# Altium schematic symbol library BuoyLoRaNode.SchLib: 18 symbols
Pins are listed as number, name and electrical type; pins without a type are passive.

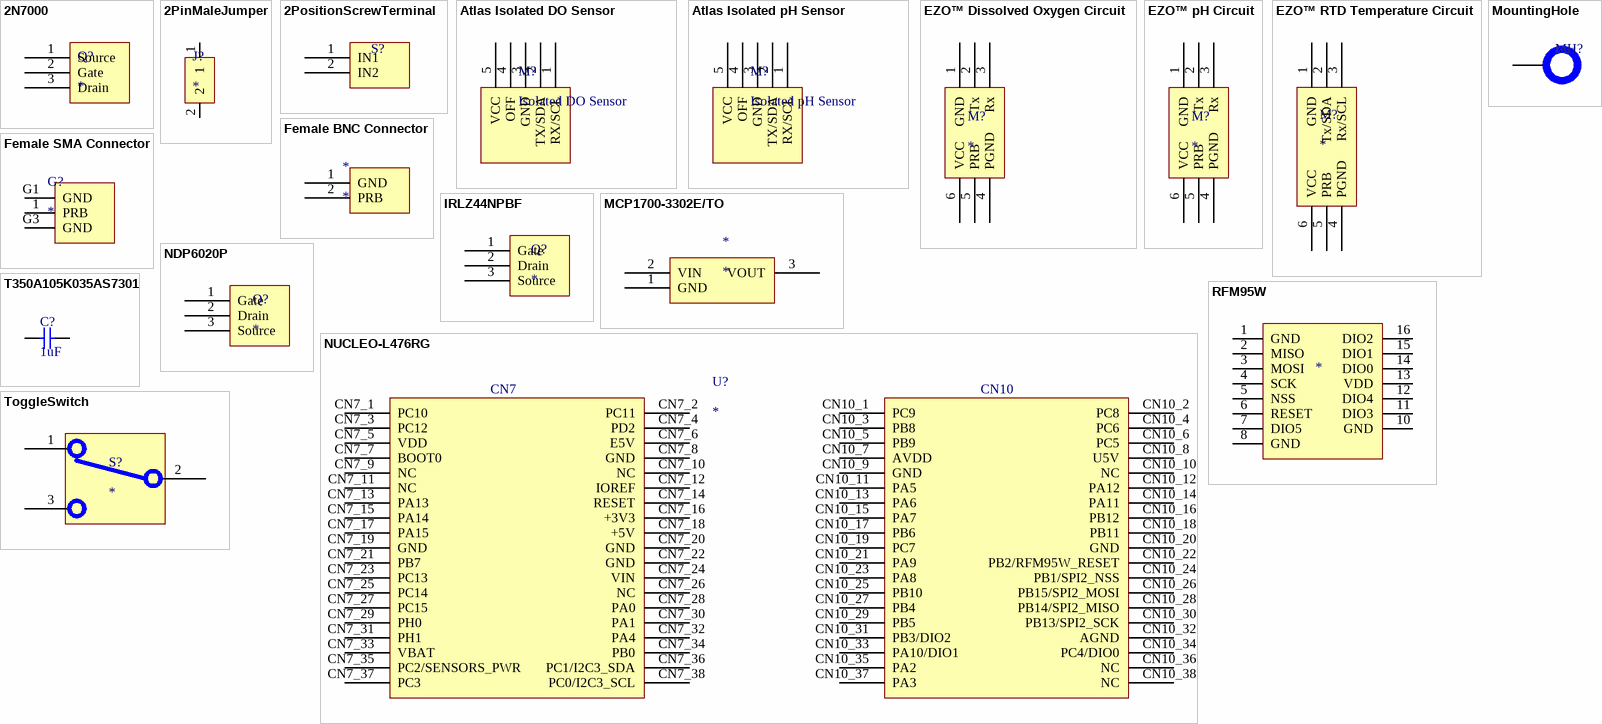
[diagram p0: symbols 2N7000 to ToggleSwitch]

## 2N7000
designator Q?
Fairchild Semiconductor 2N7000 N Channel MOSFET; Manufacturer: ON Semiconductor / Fairchild; Continuous Drain Current (ID): 200mA; Gate to Source Voltage (Vgs): 20V; Drain to Source Resistance: 1.2R; Drain to Source Voltage (Vdss): 60V; Max Power Dissipation: 400mW; Input Capacitance: 50pF; Element Configuration: Single; Rds On Max: 5R; Turn-Off Delay Time: 10ns; Number of Elements: 1; Threshold Voltage: 2.1V; Supplier 1: RSComponents; Manufacturer Part Number: 2N7000; RoHS: Yes; Category: MOSFETs; Stock 1: 1; Pricing 1: 20=0.32200, 40=0.24800, 100=0.22000, 200=0.19000, 400=0.18600 (USD); Mount: Through Hole; Case/Package: TO-92; Number of Pins: 3; Contact Plating: Copper,Tin,Silver; Weight: 0.201g; Min Operating Temperature: -55°C; Max Operating Temperature: 150°C; Packaging: Bulk; Power Dissipation: 400mW; Package Quantity: 2000; Drain to Source Breakdown Voltage: 60V; Voltage Rating (DC): 60V; Current Rating: 200mA; On-State Resistance: 5R; Nominal Vgs: 2.1V; Number of Channels: 1; Length: 5.2mm; Width: 4.19mm; Height: 5.33mm; Radiation Hardening: No; Lead Free: Lead Free; REACH SVHC: No SVHC; ComponentLink1URL: https://datasheet.ciiva.com/20171/47-0180-20171663.pdf?src-supplier=Rapid+Electronics; ComponentLink1Description: https://datasheet.ciiva.com/20171/47-0180-20171663.pdf?src-supplier=Rapid+Electronics; ComponentLink2URL: https://datasheet.ciiva.com/19457/783594-19457486.pdf?src-supplier=Jameco; ComponentLink2Description: https://datasheet.ciiva.com/19457/783594-19457486.pdf?src-supplier=Jameco; ComponentLink3URL: https://datasheet.ciiva.com/14092/2n7000-eng-tds-14092044.pdf?src-supplier=Distrelec; ComponentLink3Description: https://datasheet.ciiva.com/14092/2n7000-eng-tds-14092044.pdf?src-supplier=Distrelec; ComponentLink4URL: https://datasheet.ciiva.com/26252/nds7002a-26252924.pdf?src-supplier=Avnet+Europe; ComponentLink4Description: https://datasheet.ciiva.com/26252/nds7002a-26252924.pdf?src-supplier=Avnet+Europe; ComponentLink5URL: https://datasheet.ciiva.com/6367/2n7000-6367901.pdf?src-supplier=Digi-Key; ComponentLink5Description: https://datasheet.ciiva.com/6367/2n7000-6367901.pdf?src-supplier=Digi-Key; ComponentLink6URL: https://datasheet.ciiva.com/1254/660093-1254446.pdf?src-supplier=Newark; ComponentLink6Description: https://datasheet.ciiva.com/1254/660093-1254446.pdf?src-supplier=Newark; ComponentLink7URL: https://datasheet.ciiva.com/1188/660093-1188356.pdf?src-supplier=Element14; ComponentLink7Description: https://datasheet.ciiva.com/1188/660093-1188356.pdf?src-supplier=Element14; Supplier Part Number 1: 6714733
footprint 2N7000
pins: 1 Source, 2 Gate, 3 Drain

## 2PinMaleJumper
designator J?
footprint 2MaleJumper
pins: 1, 2

## 2PositionScrewTerminal
designator S?  (value not drawn)
PHOENIX CONTACT - 1725656 - Wire-To-Board Terminal Block, 2.54 mm, 2 Ways, 26 AWG, 20 AWG, 0.5 mm², Screw; Voltage Rating: 125V; Number of Contacts: 2; Max Current Rating: 6A; Number of Levels: 1; Max Supply Voltage: 63V; Connector Type: Screw,PCB,Terminal Block; Wire Gauge (Max): 26AWG; Wire Gauge (Min): 20AWG; Pitch: 2.54mm; Stripping Length: 4.5mm; Approvals: UL,CSA,cULus,EAC; Supplier 1: Digi-Key; Manufacturer: Phoenix Contact; Manufacturer Part Number: 1725656; RoHS: Yes; Category: Terminal Blocks; Stock 1: 9014; Pricing 1: 1=1.73000, 10=1.65600, 50=1.58400, 100=1.54080, 250=1.44000, 500=1.32480, 1000=1.22400, 2500=1.16640, 5000=1.10880 (USD); Mount: Through Hole; Number of Pins: 2; Color: Green; Weight: 0.022575oz; Contact Material: Tin; Housing Color: Green; Housing Material: Polyamide; Insulation Material: Nylon; Termination: Solder; Package Quantity: 50; Packaging: Bulk; Voltage: 125V; Series: MPT; Number of Rows: 1; Current Rating: 6A; Number of Positions Per Level: 2; Current: 6A; Number of Positions: 2; Orientation: Straight; Number of Poles: 2; Number of Circuits: 2; Length: 5.54mm; Width: 12mm; Height: 6.2mm; Depth: 6.2mm; Wire/Cable Gauge: 26AWG; Radiation Hardening: No; Lead Free: Lead Free; Flammability Rating: UL94 V-0; RoHS Compliant: Yes; REACH SVHC: No SVHC; ComponentLink1URL: https://datasheet.ciiva.com/823/1725656-823793.pdf?src-supplier=Digi-Key; ComponentLink1Description: https://datasheet.ciiva.com/823/1725656-823793.pdf?src-supplier=Digi-Key; ComponentLink2URL: https://datasheet.ciiva.com/1120/319957-1120510.pdf?src-supplier=Farnell; ComponentLink2Description: https://datasheet.ciiva.com/1120/319957-1120510.pdf?src-supplier=Farnell; ComponentLink3URL: https://datasheet.ciiva.com/16071/1725656-16071846.pdf?src-supplier=Onlinecomponents.com; ComponentLink3Description: https://datasheet.ciiva.com/16071/1725656-16071846.pdf?src-supplier=Onlinecomponents.com; ComponentLink4URL: https://datasheet.ciiva.com/15169/getdatasheetpartid-199323-15169849.pdf?src-supplier=Verical; ComponentLink4Description: https://datasheet.ciiva.com/15169/getdatasheetpartid-199323-15169849.pdf?src-supplier=Verical; ComponentLink5URL: https://datasheet.ciiva.com/26340/788052-da-01-en-100ntklemme-1725656-250-st-26340907.pdf?src-supplier=Conrad; ComponentLink5Description: https://datasheet.ciiva.com/26340/788052-da-01-en-100ntklemme-1725656-250-st-26340907.pdf?src-supplier=Conrad; Supplier Part Number 1: 277-1273-ND
footprint 2POSITIONSCREWTERMINAL
pins: 1 IN1, 2 IN2

## Atlas Isolated DO Sensor
designator M?, comment Isolated DO Sensor
footprint ATLASISOLATEDDOSENSOR
pins: 1 RX/SCL, 2 TX/SDA, 3 GND, 4 OFF, 5 VCC

## Atlas Isolated pH Sensor
designator M?, comment Isolated pH Sensor
footprint ATLASISOLATEDPHSENSOR
pins: 1 RX/SCL, 2 TX/SDA, 3 GND, 4 OFF, 5 VCC

## EZO™ Dissolved Oxygen Circuit
designator M?
Supplier 1: Digi-Key; Supplier Part Number 1: 952-1784-ND
footprint AtlasDOSensor
pins: 1 GND, 2 Tx, 3 Rx, 4 PGND, 5 PRB, 6 VCC

## EZO™ pH Circuit
designator M?
footprint AtlasPHSensor
pins: 1 GND, 2 Tx, 3 Rx, 4 PGND, 5 PRB, 6 VCC

## EZO™ RTD Temperature Circuit
designator M?
footprint AtlasTemperatureSensor
pins: 1 GND, 2 Tx/SDA, 3 Rx/SCL, 4 PGND, 5 PRB, 6 VCC

## Female BNC Connector
designator *
Conn BNC RCP Solder RA Thru-Hole Gold; Manufacturer: TE Connectivity; Manufacturer Part Number: 228686-1; Manufacturer Series: 228686; Body Material: PBT,Polybutylene; Body Plating: Nickel; Dielectric Material: Polymethylpentene; Number of Terminals/Pins: 20; Shape: Rectangular; Voltage Rating: 500V; Impedance: 50R; Polarity: Standard; Insulation Resistance: 5GR; Connector Type: BNC,Jack; Max Frequency: 4GHz; Gender: Male; PCB Mounting Orientation: Right Angle; Forward Current: 25mA; Coupling Type: Bayonet; Supplier 1: Digi-Key; RoHS: Yes; Category: RF / Coaxial Connectors; Stock 1: 413; Pricing 1: 1=11.59000, 10=10.26900, 25=9.87360, 50=9.47880, 100=8.95210, 250=8.16224, 500=7.63562, 1000=7.37233 (USD); Mount: Panel; Number of Pins: 20; Contact Plating: Gold; Contact Material: Bronze; Insulation Material: Polymethylpentene; Housing Color: White; Color: Yellow; Min Operating Temperature: -55°C; Max Operating Temperature: 85°C; Termination: Solder; Packaging: Bulk; Package Quantity: 35; Orientation: Right Angle; Series: BNC, Twin; Fastening Type: Bayonet; Operating Frequency: N/A; Contact Gender: Female; Length: 36.83mm; Depth: 14.76mm; Radiation Hardening: No; Lead Free: Contains Lead; ELV: Compliant; ComponentLink1URL: https://datasheet.ciiva.com/643/eng-cd-228686-f-643032.pdf?src-supplier=Digi-Key; ComponentLink1Description: https://datasheet.ciiva.com/643/eng-cd-228686-f-643032.pdf?src-supplier=Digi-Key; ComponentLink2URL: https://datasheet.ciiva.com/27747/921344-27747594.pdf?src-supplier=Jameco; ComponentLink2Description: https://datasheet.ciiva.com/27747/921344-27747594.pdf?src-supplier=Jameco; ComponentLink3URL: https://datasheet.ciiva.com/30091/eng-cat-82074-0598-144-30091995.pdf?src-supplier=Onlinecomponents.com; ComponentLink3Description: https://datasheet.ciiva.com/30091/eng-cat-82074-0598-144-30091995.pdf?src-supplier=Onlinecomponents.com; Supplier Part Number 1: A24708-ND
footprint BNCFemaleConnector
pins: 1 GND, 2 PRB

## Female SMA Connector
designator G?
footprint SmaFemaleConnectorEdgeMount
pins: 1 PRB, G1 GND, G3 GND

## IRLZ44NPBF
designator Q?
INFINEON - IRLZ44NPBF - MOSFET, N, 55V, 41A, TO-220; Manufacturer: International Rectifier; Continuous Drain Current (ID): 47A; Gate to Source Voltage (Vgs): 16V; Rise Time: 84ns; Number of Elements: 1; Drain to Source Resistance: 35mR; Power Dissipation: 110W; Turn-On Delay Time: 11ns; Turn-Off Delay Time: 26ns; Fall Time: 15ns; Drain-source On Resistance-Max: 22mR; Input Capacitance: 1.7nF; Nominal Vgs: 2V; Recovery Time: 120ns; Element Configuration: Single; Supplier 1: Newark; Manufacturer Part Number: IRLZ44NPBF; RoHS: Yes; Category: MOSFETs; Mount: Through Hole; Case/Package: TO-220AB; Number of Pins: 3; Min Operating Temperature: -55°C; Max Operating Temperature: 175°C; Drain to Source Voltage (Vdss): 55V; Max Power Dissipation: 110W; Package Quantity: 50; Packaging: Rail/Tube; Rds On Max: 22mR; Drain to Source Breakdown Voltage: 55V; On-State Resistance: 22mR; Series: HEXFET®; Dual Supply Voltage: 55V; Voltage Rating (DC): 55V; Current Rating: 47A; Length: 10.54mm; Width: 4.69mm; Height: 8.77mm; Lead Pitch: 2.54mm; Radiation Hardening: No; RoHS Compliant: Yes; Lead Free: Lead Free; REACH SVHC: No SVHC; ComponentLink1URL: https://datasheet.ciiva.com/19479/1563905-19479714.pdf?src-supplier=Jameco; ComponentLink1Description: https://datasheet.ciiva.com/19479/1563905-19479714.pdf?src-supplier=Jameco; ComponentLink2URL: https://datasheet.ciiva.com/7459/irlz44n-7459241.pdf?src-supplier=Newark; ComponentLink2Description: https://datasheet.ciiva.com/7459/irlz44n-7459241.pdf?src-supplier=Newark; ComponentLink3URL: https://datasheet.ciiva.com/16427/irlz44npbf-16427676.pdf?src-supplier=Future+Electronics; ComponentLink3Description: https://datasheet.ciiva.com/16427/irlz44npbf-16427676.pdf?src-supplier=Future+Electronics; ComponentLink4URL: https://datasheet.ciiva.com/7835/irlz44npbf-7835815.pdf?src-supplier=Element14; ComponentLink4Description: https://datasheet.ciiva.com/7835/irlz44npbf-7835815.pdf?src-supplier=Element14; ComponentLink5URL: https://datasheet.ciiva.com/939/irlz44npbf-939116.pdf?src-supplier=Digi-Key; ComponentLink5Description: https://datasheet.ciiva.com/939/irlz44npbf-939116.pdf?src-supplier=Digi-Key; Supplier Part Number 1: 38K3030
footprint IRLZ44N
pins: 1 Gate, 2 Drain, 3 Source

## MCP1700-3302E/TO
designator *
LDO Regulator Pos 3.3V 0.25A 3-Pin TO-92 Bag; Manufacturer: Microchip; Manufacturer Part Number: MCP1700-3302E/TO; Max Input Voltage: 6V; Min Input Voltage: 2.3V; Number of Outputs: 1; Output Type: Fixed; Output Current: 250mA; Input Bias Current: 1.6uA; Polarity: Positive; Quiescent Current: 4uA; Accuracy: 2%; Dropout Voltage: 178mV; Max Power Dissipation: 644mW; Supplier 1: RSComponents; RoHS: Yes; Category: Voltage Regulators - Linear; Stock 1: 1; Pricing 1: 10=0.41600, 30=0.39600, 100=0.36500 (USD); Mount: Through Hole; Case/Package: TO-92; Number of Pins: 3; Min Operating Temperature: -40°C; Max Operating Temperature: 125°C; Output Voltage: 3.3V; Nominal Output Voltage: 3.3V; Max Output Current: 250mA; Packaging: Bag; Package Quantity: 1000; Min Output Voltage: 3.3V; Output Voltage Accuracy: 2%; Power Dissipation: 644mW; Length: 0.205inch; Width: 0.165inch; Height: 0.21inch; Radiation Hardening: No; REACH SVHC: No SVHC; Lead Free: Lead Free; RoHS Compliant: Yes; ComponentLink1URL: https://datasheet.ciiva.com/15111/getdatasheetpartid-57068-15111255.pdf?src-supplier=Verical; ComponentLink1Description: https://datasheet.ciiva.com/15111/getdatasheetpartid-57068-15111255.pdf?src-supplier=Verical; ComponentLink2URL: https://datasheet.ciiva.com/2040/21826b-2040652.pdf?src-supplier=Digi-Key; ComponentLink2Description: https://datasheet.ciiva.com/2040/21826b-2040652.pdf?src-supplier=Digi-Key; ComponentLink3URL: https://datasheet.ciiva.com/7649/21826b-7649804.pdf?src-supplier=Element14; ComponentLink3Description: https://datasheet.ciiva.com/7649/21826b-7649804.pdf?src-supplier=Element14; ComponentLink4URL: https://datasheet.ciiva.com/8041/21826b-8041593.pdf?src-supplier=Element14; ComponentLink4Description: https://datasheet.ciiva.com/8041/21826b-8041593.pdf?src-supplier=Element14; ComponentLink5URL: https://datasheet.ciiva.com/17364/jp011779-17364271.pdf?src-supplier=Avnet+Europe; ComponentLink5Description: https://datasheet.ciiva.com/17364/jp011779-17364271.pdf?src-supplier=Avnet+Europe; ComponentLink6URL: https://datasheet.ciiva.com/16380/filehandler-aspxddocname-en011779-16380149.pdf?src-supplier=Future+Electronics; ComponentLink6Description: https://datasheet.ciiva.com/16380/filehandler-aspxddocname-en011779-16380149.pdf?src-supplier=Future+Electronics; ComponentLink7URL: https://datasheet.ciiva.com/14562/70045391-14562025.pdf?src-supplier=Allied+Electronics; ComponentLink7Description: https://datasheet.ciiva.com/14562/70045391-14562025.pdf?src-supplier=Allied+Electronics; Supplier Part Number 1: 0403888
footprint MCP1700
pins: 1 GND, 2 VIN, 3 VOUT

## MountingHole
designator MH?, comment MountingHole_3.4mmHole  (value not drawn)
footprint MountingHole
pins: 1

## NDP6020P
designator Q?
ON SEMICONDUCTOR - NDP6020P - MOSFET Transistor, P Channel, 24 A, -20 V, 0.041 ohm, -4.5 V, -700 mV; Manufacturer: ON Semiconductor / Fairchild; Continuous Drain Current (ID): 24A; Max Power Dissipation: 60W; Rise Time: 27ns; Rds On Max: 50mR; Input Capacitance: 1.59nF; Drain to Source Voltage (Vdss): 20V; Fall Time: 70ns; Drain to Source Resistance: 5mR; Turn-Off Delay Time: 120ns; Element Configuration: Single; Drain to Source Breakdown Voltage: -20V; Gate to Source Voltage (Vgs): 8V; Number of Elements: 1; Turn-On Delay Time: 15ns; Threshold Voltage: -700mV; Current Rating: -24A; Polarity: P-CHANNEL; Supplier 1: Newark; Manufacturer Part Number: NDP6020P; RoHS: Yes; Category: MOSFETs; Pricing 1: 1=1.72000, 10=1.46000, 100=1.14000, 500=0.96600, 1000=0.83600 (USD); Mount: Through Hole; Case/Package: TO-220AB; Number of Pins: 3; Weight: 1.8g; Min Operating Temperature: -55°C; Max Operating Temperature: 175°C; Packaging: Rail/Tube; Package Quantity: 50; Series: -; Power Dissipation: 60W; Voltage Rating (DC): -20V; On-State Resistance: 50mR; Drain-source On Resistance-Max: 50mR; Length: 10.67mm; Width: 4.7mm; Height: 16.3mm; Radiation Hardening: No; Lead Free: Lead Free; RoHS Compliant: Yes; REACH SVHC: No SVHC; ComponentLink1URL: https://datasheet.ciiva.com/15137/getdatasheetpartid-59735-15137233.pdf?src-supplier=Verical; ComponentLink1Description: https://datasheet.ciiva.com/15137/getdatasheetpartid-59735-15137233.pdf?src-supplier=Verical; ComponentLink2URL: https://datasheet.ciiva.com/11175/ndb6020p-11175173.pdf?src-supplier=Avnet; ComponentLink2Description: https://datasheet.ciiva.com/11175/ndb6020p-11175173.pdf?src-supplier=Avnet; ComponentLink3URL: https://datasheet.ciiva.com/6370/ndb6020p-6370087.pdf?src-supplier=Digi-Key; ComponentLink3Description: https://datasheet.ciiva.com/6370/ndb6020p-6370087.pdf?src-supplier=Digi-Key; ComponentLink4URL: https://datasheet.ciiva.com/26140/ndb6020p-26140174.pdf?src-supplier=Avnet+Europe; ComponentLink4Description: https://datasheet.ciiva.com/26140/ndb6020p-26140174.pdf?src-supplier=Avnet+Europe; ComponentLink5URL: https://datasheet.ciiva.com/17400/ndp6020p-17400318.pdf?src-supplier=Future+Electronics; ComponentLink5Description: https://datasheet.ciiva.com/17400/ndp6020p-17400318.pdf?src-supplier=Future+Electronics; ComponentLink6URL: https://datasheet.ciiva.com/48701/001264959-da-01-en-mosfet-p-ch-20v-24-ndp6020p-to-220-3-fsc-48701132.pdf?src-supplier=Conrad; ComponentLink6Description: https://datasheet.ciiva.com/48701/001264959-da-01-en-mosfet-p-ch-20v-24-ndp6020p-to-220-3-fsc-48701132.pdf?src-supplier=Conrad; Supplier Part Number 1: 03M5118
footprint NDP6020P
pins: 1 Gate, 2 Drain, 3 Source

## NUCLEO-L476RG
designator U?
16/32-BITS MICROS; Manufacturer: STMicroelectronics; Manufacturer Part Number: NUCLEO-L476RG; Evaluation Kit: Yes; Core Architecture: ARM; Number of Bits: 32; Supplier 1: Digi-Key; RoHS: Yes; Category: Embedded Processors and Controllers; Stock 1: 10; Pricing 1: 1=14.90000 (USD); REACH SVHC: No SVHC; Lead Free: Lead Free; ComponentLink1URL: http://www.farnell.com/datasheets/2308719.pdf?src-supplier=Farnell; ComponentLink1Description: http://www.farnell.com/datasheets/2308719.pdf?src-supplier=Farnell; ComponentLink2URL: http://www.st.com/content/ccc/resource/technical/document/datasheet/c5/ed/2f/60/aa/79/42/0b/DM00108832.pdf/files/DM00108832.pdf/jcr:content/translations/en.DM00108832.pdf?src-supplier=Digi-Key; ComponentLink2Description: http://www.st.com/content/ccc/resource/technical/document/datasheet/c5/ed/2f/60/aa/79/42/0b/DM00108832.pdf/files/DM00108832.pdf/jcr:content/translations/en.DM00108832.pdf?src-supplier=Digi-Key; ComponentLink3URL: http://www.farnell.com/datasheets/1947285.pdf?src-supplier=Element14; ComponentLink3Description: http://www.farnell.com/datasheets/1947285.pdf?src-supplier=Element14; Supplier Part Number 1: 497-15881-ND
footprint NUCLEOL476RG
pins: CN7_1 PC10, CN7_2 PC11, CN7_3 PC12, CN7_4 PD2, CN7_5 VDD, CN7_6 E5V, CN7_7 BOOT0, CN7_8 GND, CN7_9 NC, CN7_10 NC, CN7_11 NC, CN7_12 IOREF, CN7_13 PA13, CN7_14 RESET, CN7_15 PA14, CN7_16 +3V3, CN7_17 PA15, CN7_18 +5V, CN7_19 GND, CN7_20 GND, CN7_21 PB7, CN7_22 GND, CN7_23 PC13, CN7_24 VIN, CN7_25 PC14, CN7_26 NC, CN7_27 PC15, CN7_28 PA0, CN7_29 PH0, CN7_30 PA1, CN7_31 PH1, CN7_32 PA4, CN7_33 VBAT, CN7_34 PB0, CN7_35 PC2/SENSORS_PWR, CN7_36 PC1/I2C3_SDA, CN7_37 PC3, CN7_38 PC0/I2C3_SCL, CN10_1 PC9, CN10_2 PC8, CN10_3 PB8, CN10_4 PC6, CN10_5 PB9, CN10_6 PC5, CN10_7 AVDD, CN10_8 U5V, CN10_9 GND, CN10_10 NC, CN10_11 PA5, CN10_12 PA12, CN10_13 PA6, CN10_14 PA11, CN10_15 PA7, CN10_16 PB12, CN10_17 PB6, CN10_18 PB11, CN10_19 PC7, CN10_20 GND, CN10_21 PA9, CN10_22 PB2/RFM95W_RESET, CN10_23 PA8, CN10_24 PB1/SPI2_NSS, CN10_25 PB10, CN10_26 PB15/SPI2_MOSI, CN10_27 PB4, CN10_28 PB14/SPI2_MISO, CN10_29 PB5, CN10_30 PB13/SPI2_SCK, CN10_31 PB3/DIO2, CN10_32 AGND, CN10_33 PA10/DIO1, CN10_34 PC4/DIO0, CN10_35 PA2, CN10_36 NC, CN10_37 PA3, CN10_38 NC
text: CN7; CN10

## RFM95W
designator *
RFM95W Breakout Board; Manufacturer: Molex; Contact Resistance: 10mR; Number of Contacts: 6; Gender: Male; Current Rating: 4A; Voltage Rating: 250V; Insulation Resistance: 50GR; Connector Type: Male Pin; Pitch: 2.54mm; Glow Wire Compliant: Non-compliant; Manufacturer Part Number: 22-10-2061; RoHS: Yes; Category: Headers and Wire Housings; Stock 1: 3643; Pricing 1: 1=1.33000, 10=1.10400, 100=0.92000, 1000=0.73600, 5000=0.64400, 10000=0.61180 (USD); Mount: Through Hole; Contact Plating: Gold,Copper,Tin; Contact Material: Brass; Housing Color: Black; Housing Material: Nylon; Color: White; Min Operating Temperature: 0°C; Max Operating Temperature: 75°C; Number of Rows: 1; Packaging: Bulk; Termination: Solder; Orientation: Straight; Package Quantity: 10; Number of Positions: 6; Voltage Rating (DC): 250V; Number of Circuits: 6; Series: KK® 4030; Contact Type: Male Pin; Length: 95mm; Height: 14.68mm; Depth: 9.02mm; Contact Mating Length: 0.295inch; Radiation Hardening: No; RoHS Compliant: Yes; REACH SVHC: Unknown; Halogen Free: Low Halogen; Flammability Rating: UL94 V-0; ComponentLink1URL: https://datasheet.ciiva.com/711/022032041-sd-711929.pdf?src-supplier=Digi-Key; ComponentLink1Description: https://datasheet.ciiva.com/711/022032041-sd-711929.pdf?src-supplier=Digi-Key; ComponentLink2URL: https://datasheet.ciiva.com/5158/0022102061-pcb-headers-158488-5158499.pdf?src-supplier=Mouser; ComponentLink2Description: https://datasheet.ciiva.com/5158/0022102061-pcb-headers-158488-5158499.pdf?src-supplier=Mouser; ComponentLink3URL: https://datasheet.ciiva.com/10086/0022102061-pcb-headers-10086323.pdf?src-supplier=Avnet; ComponentLink3Description: https://datasheet.ciiva.com/10086/0022102061-pcb-headers-10086323.pdf?src-supplier=Avnet; ComponentLink4URL: https://datasheet.ciiva.com/19461/1965971-19461525.pdf?src-supplier=Jameco; ComponentLink4Description: https://datasheet.ciiva.com/19461/1965971-19461525.pdf?src-supplier=Jameco; ComponentLink5URL: https://datasheet.ciiva.com/30196/0022102061-pcb-headers-30196683.pdf?src-supplier=Onlinecomponents.com; ComponentLink5Description: https://datasheet.ciiva.com/30196/0022102061-pcb-headers-30196683.pdf?src-supplier=Onlinecomponents.com; ComponentLink6URL: https://datasheet.ciiva.com/16727/0022102061-pcb-headers-16727098.pdf?src-supplier=Avnet+Europe; ComponentLink6Description: https://datasheet.ciiva.com/16727/0022102061-pcb-headers-16727098.pdf?src-supplier=Avnet+Europe; Supplier 1: Digi-Key; Supplier Part Number 1: 23-0022102081-ND
footprint HDR1X8
footprint RFM95WBreakout
pins: 1 GND, 2 MISO, 3 MOSI, 4 SCK, 5 NSS, 6 RESET, 7 DIO5, 8 GND, 10 GND, 11 DIO3, 12 DIO4, 13 VDD, 14 DIO0, 15 DIO1, 16 DIO2

## T350A105K035AS7301
designator C?, comment 1uF
CAP TANT 1UF 10% 35V RADIAL; Manufacturer: KEMET; Manufacturer Part Number: T350A105K035AS7301; ESR (Equivalent Series Resistance): 8R; Leakage Current: 500nA; Polarity: Polar; Dissipation Factor: 3%; Lead Diameter: 0.5mm; Supplier 1: Digi-Key; RoHS: No; Category: Tantalum Capacitors; Stock 1: 8816; Pricing 1: 1=1.46000, 10=1.15200, 50=0.99820, 100=0.86380, 500=0.65264 (USD); Case/Package: Dipped; Min Operating Temperature: -55°C; Max Operating Temperature: 125°C; Packaging: Tape and Reel; Capacitance: 1uF; Voltage Rating: 35V; Tolerance: 10%; Voltage Rating (DC): 35V; Termination: Radial; Series: T35X; Construction: RADIAL; Diameter: 4.5mm; Height: 7.1mm; Lead Pitch: 2.54mm; RoHS Compliant: No; ComponentLink1URL: http://www.mouser.com/ds/2/212/F3100-1140474.pdf?src-supplier=Mouser; ComponentLink1Description: http://www.mouser.com/ds/2/212/F3100-1140474.pdf?src-supplier=Mouser; ComponentLink2URL: http://components.arrow.com/part/dataview/0323_00403401?src-supplier=Arrow+Europe; ComponentLink2Description: http://components.arrow.com/part/dataview/0323_00403401?src-supplier=Arrow+Europe; ComponentLink3URL: https://api.kemet.com/component-edge/download/datasheet/T350A105K035AS7301.pdf?src-supplier=Digi-Key; ComponentLink3Description: https://api.kemet.com/component-edge/download/datasheet/T350A105K035AS7301.pdf?src-supplier=Digi-Key; Supplier Part Number 1: 399-18004-1-ND
footprint C1uFTantalum
pins: 1, 2

## ToggleSwitch
designator S?
footprint ToggleSwitch
pins: 1 L1, 2 COM, 3 L2